# Altium footprint library fp2.PcbLib: 1 footprints
Each footprint in its own frame and in the unit in brackets; x right, y up, seen from the top. Pads: shape width x height; smd on the part's side, far side on the other; paste and mask are expansions set on the pad; w line width, h text height; cw(c..) or ccw(c..) is an arc to the next point about the centre after c.
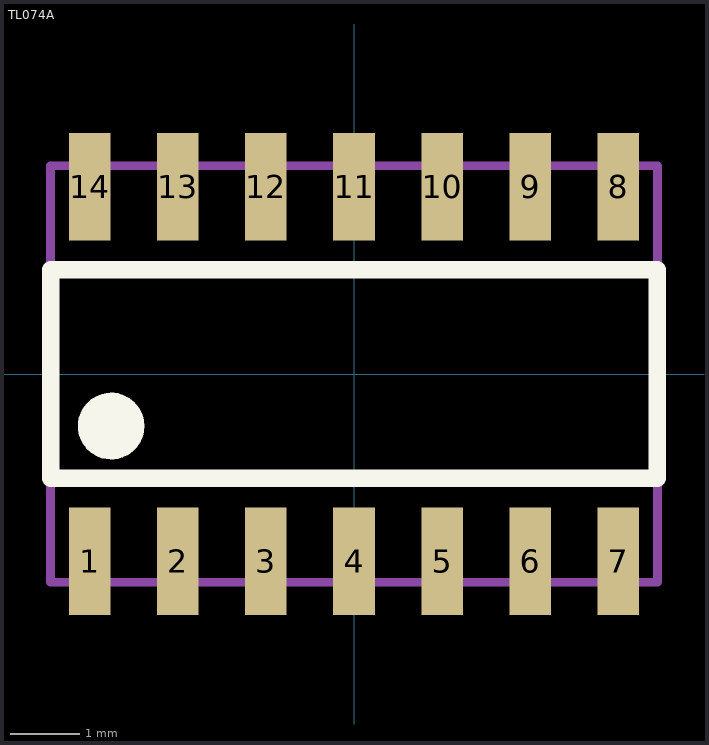
[diagram p0: the footprint, top view; thin cyan lines are the x and y axes]

## TL074A [mm]
pads (14):
  rect 0.6x1.55 smd mask+0.07: 1(-3.81,-2.7) 2(-2.54,-2.7) 3(-1.27,-2.7) 4(0,-2.7) 5(1.27,-2.7) 6(2.54,-2.7) 7(3.81,-2.7) 8(3.81,2.7) 9(2.54,2.7) 10(1.27,2.7) 11(0,2.7) 12(-1.27,2.7) 13(-2.54,2.7) 14(-3.81,2.7)
Top Overlay:
  circle w0.254: c-3.5,-0.75 r0.354
  rectangle: -3.75,-1 -3.25,-0.5
  lines w0.254: 4.369,-1.25 4.369,1.25 4.369,1.5 3.75,1.5 -4.369,1.5 -4.369,1.25 -4.369,-1.25 -4.369,-1.5 4.369,-1.5 4.369,-0.25
Mechanical 13:
  lines w0.127: -4.375,-3 -4.375,3 4.375,3 4.375,-3 -4.375,-3
3D body "User Library-SOIC-14.step": height 1.75, standoff 0, extent -4.375,-3 4.375,3